# EAGLE library part E07-M1101S_V3.0 (library E07-M1101S_V3.0)
E07-M1101S <[IC] : CC1101 [Frequency] : 387~464MHz [Power] : 10dBm [Distance] : 1.0km [Interface] : SPI [Weight] : 0.5±0.1g [Introduction] : 07-M1101S is a SMD wireless transceiver module, operates at 433MHz with small-size and 10mW transmitting power. http://www.ebyte.com/en/product-view-news.aspx?id=167 Desinged by suleyman eskil >
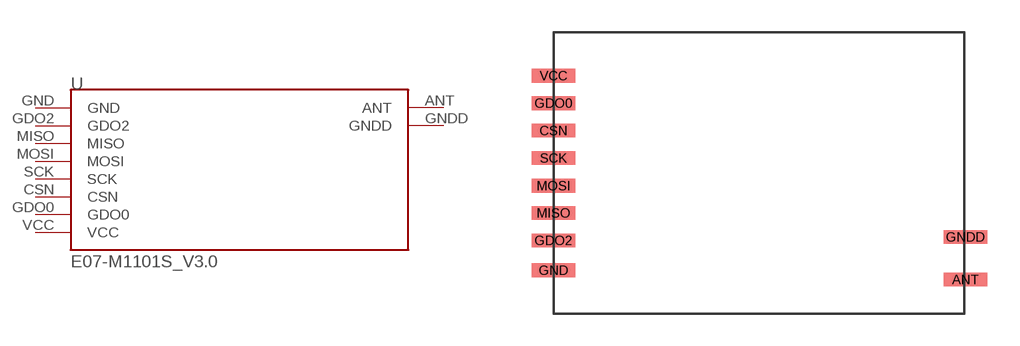
[diagram p0: symbol with the pads of E07-M1101S_V3.0; footprint E07-M1101S_V3.0]

Designator prefix -

## E07-M1101S_V3.0  [E07-M1101S_V3.0]
ANT  ANT
CSN  CSN
GDO0  GDO0
GDO2  GDO2
GND  GND
GNDD  GNDD
MISO  MISO
MOSI  MOSI
SCK  SCK
VCC  VCC

## Footprint E07-M1101S_V3.0 (pad centres in mm)
E07-M1101S 07-M1101S is a SMD wireless transceiver module, operates at 433MHz with small-size and 10mW transmitting power.
smd 2 x 0.635: ANT 19.05,1.27; CSN 0,8.16; GDO0 0,9.43; GDO2 0,3.08; GND 0,1.7; GNDD 19.05,3.24; MISO 0,4.35; MOSI 0,5.61; SCK 0,6.89; VCC 0,10.7